# Altium footprint library THT_Diode_Pcb.PcbLib: 2 footprints
Each footprint in its own frame and in the unit in brackets; x right, y up, seen from the top. Pads: shape width x height; smd on the part's side, far side on the other; paste and mask are expansions set on the pad; w line width, h text height; cw(c..) or ccw(c..) is an arc to the next point about the centre after c.
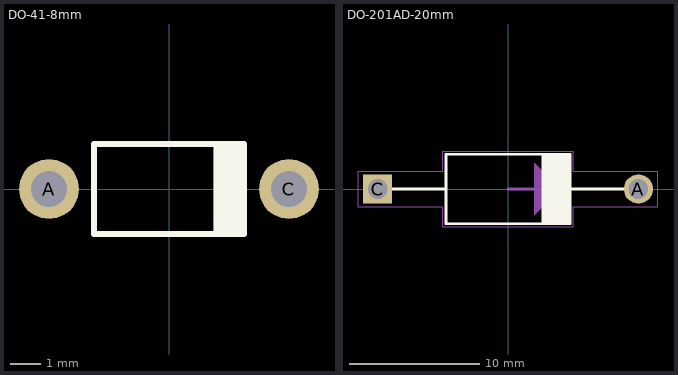
[diagram p0: the footprints below, top view; thin cyan lines are the x and y axes]

## DO-41-8mm [mm]
pads (2):
  round 2 hole 1.2: A(-4,0) C(4,0)
Top Overlay:
  region: 1.5,1.5 2.5,1.5 2.5,-1.5 1.5,-1.5
  lines w0.2: -2.5,-1.5 2.5,-1.5 2.5,1.5 -2.5,1.5 -2.5,0 -2.5,-1.5
Mechanical 29 (Mech29):
  region: 1.5,1.5 2.5,1.5 2.5,-1.5 1.5,-1.5
  lines w0.2: -2.5,-1.5 2.5,-1.5 2.5,1.5 -2.5,1.5 -2.5,0 -2.5,-1.5
3D body "DO-41-300mil.step": height 2.52, standoff -2, extent -4.2,-1.201 4.2,1.201

## DO-201AD-20mm [mm]
pads (2):
  round 2.25 hole 1.5: A(10,0)
  rect 2.25x2.25 hole 1.5: C(-10,0)
Top Overlay:
  rectangle: 2.575,-2.65 4.75,2.65
  lines w0.2: -8.89,0 -4.8,0 ; 4.8,0 8.89,0 ; -4.75,-2.65 -4.75,2.65 4.75,2.65 4.75,-2.65 -4.75,-2.65
Mechanical 29 (Mech29):
  region: 4,0 2,2 2,-2
  lines w0.05: -11.5,-1.35 -11.5,1.35 -5,1.35 -5,2.9 5,2.9 5,1.35 11.5,1.35 11.5,-1.35 5,-1.35 5,-2.9 -5,-2.9 -5,-1.35 -11.5,-1.35
  lines w0.2: 0,0 2,0 ; 4,-2 4,0 4,2
3D body "DO-201AD_20mm.SLDPRT": height 5.5, standoff -2, extent -10.649,-2.497 10.649,2.497